# Altium schematic symbol library SLB9665.SchLib: 1 symbol
Pins are listed as number, name and electrical type; pins without a type are passive.

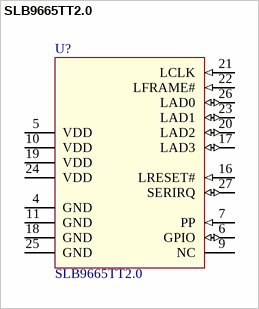
[diagram p0: symbol SLB9665TT2.0]

## SLB9665TT2.0
designator U?
OPTIGA™ TPM SLB 9665 TPM2.0; value: TPA6138A2PW
footprint TSSOP-28 (Shrink Small Outline; 28 Leads; Body Width 4.4 mm; Pitch 0.65 mm)
pins: 4 GND (power), 5 VDD (power), 6 GPIO (io), 7 PP (in), 9 NC "This pin may be connected to the Reset signal (for backward compatibility) or may be left floating", 10 VDD (power), 11 GND (power), 16 LRESET# (in), 17 LAD3 (io), 18 GND (power), 19 VDD (power), 20 LAD2 (io), 21 LCLK (in), 22 LFRAME# (in), 23 LAD1 (io), 24 VDD (power), 25 GND (power), 26 LAD0 (io), 27 SERIRQ (io)